# EAGLE library part THS9001 (library FM_transmitter)
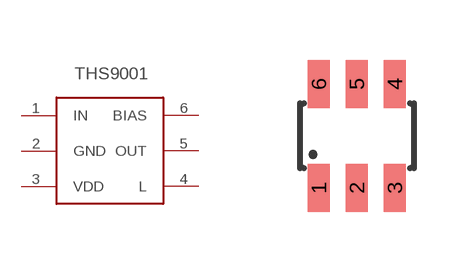
[diagram p3: symbol with the pads of SOT23-6; footprint SOT23-6]

Designator prefix -

## THS9001  [SOT23-6]
1  IN
2  GND
3  VDD
4  L
5  OUT
6  BIAS

## Footprint SOT23-6 (pad centres in mm)
smd 0.55 x 1.2: 1 -0.95,-1.3; 2 0,-1.3; 3 0.95,-1.3; 4 0.95,1.3; 5 0,1.3; 6 -0.95,1.3